# Altium schematic symbol library cap.SchLib: 13 symbols
Pins are listed as number, name and electrical type; pins without a type are passive.

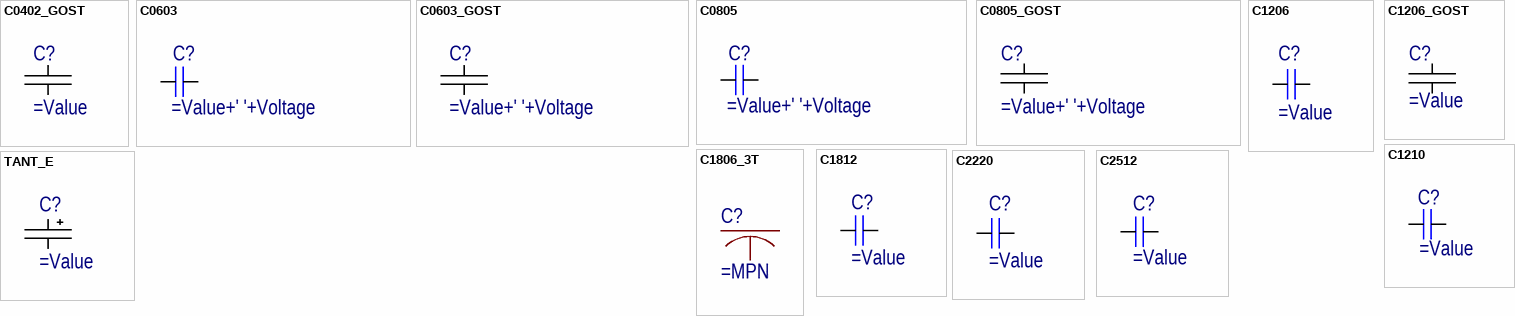
[diagram p0: symbols C0402_GOST to TANT_E]

## C0402_GOST
designator C?
pins: 1, 2

## C0603
designator C?
pins: 1, 2

## C0603_GOST
designator C?
pins: 1, 2

## C0805
designator C?
pins: 1, 2

## C0805_GOST
designator C?
pins: 1, 2

## C1206
designator C?
pins: 1, 2

## C1206_GOST
designator C?
pins: 1, 2

## C1210
designator C?
pins: 1, 2

## C1806_3T
designator C?
pins: 1, 2, 3

## C1812
designator C?
pins: 1, 2

## C2220
designator C?
pins: 1, 2

## C2512
designator C?
pins: 1, 2

## TANT_E
designator C?
pins: 1, 2